# Altium footprint library 8-SOP.PcbLib: 1 footprints
Each footprint in its own frame and in the unit in brackets; x right, y up, seen from the top. Pads: shape width x height; smd on the part's side, far side on the other; paste and mask are expansions set on the pad; w line width, h text height; cw(c..) or ccw(c..) is an arc to the next point about the centre after c.
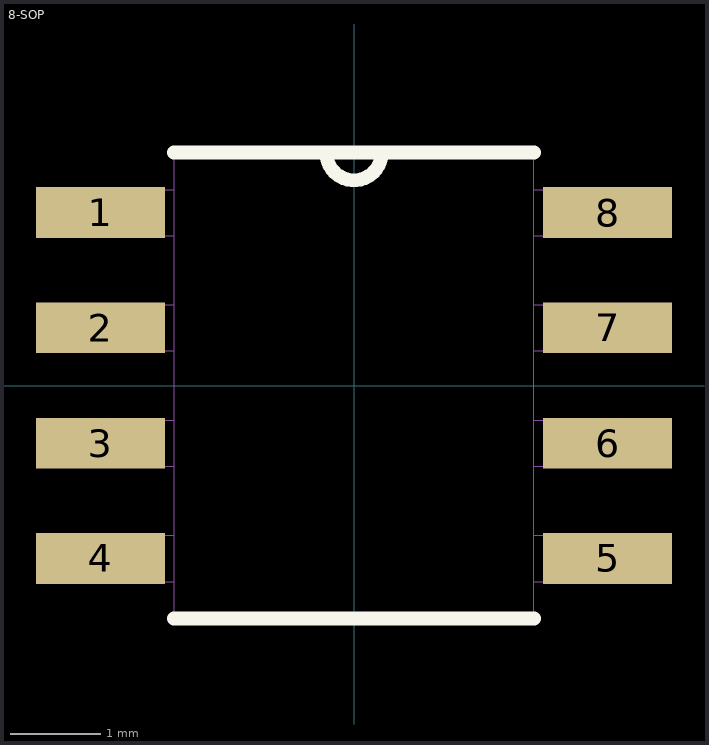
[diagram p0: the footprint, top view; thin cyan lines are the x and y axes]

## 8-SOP [mil]
pads (8):
  rect 56x22 smd: 1(-110,75) 2(-110,25) 3(-110,-25) 4(-110,-75) 5(110,-75) 6(110,-25) 7(110,25) 8(110,75)
Top Overlay:
  lines w6: -78,-101 78,-101 ; -78,101 -12,101 ; 78,101 12,101 ; -12,101 ccw(c0,101) 12,101 ; -12,101 12,101
Mechanical 4:
  lines w0: -124,-85 -124,-65 ; -124,-85 -78,-85 ; -124,-85 -124,-65 ; -124,-85 -78,-85 ; -124,-65 -78,-65 ; -124,-65 -78,-65 ; -124,-35 -124,-15 ; -124,-35 -78,-35 ; -124,-35 -124,-15 ; -124,-35 -78,-35 ; -124,-15 -78,-15 ; -124,-15 -78,-15 ; -124,15 -124,35 ; -124,15 -78,15 ; -124,15 -124,35 ; -124,15 -78,15 ; -124,35 -78,35 ; -124,35 -78,35 ; -124,65 -124,85 ; -124,65 -78,65 ; -124,65 -124,85 ; -124,65 -78,65 ; -124,85 -78,85 ; -124,85 -78,85 ; -78,-101 78,-101 ; -78,-101 -78,101 ; -78,-101 78,-101 ; -78,-101 -78,101 ; -78,-85 -78,-65 ; -78,-85 -78,-65 ; -78,-35 -78,-15 ; -78,-35 -78,-15 ; -78,15 -78,35 ; -78,15 -78,35 ; -78,65 -78,85 ; -78,65 -78,85 ; -78,101 -12,101 ; -78,101 -12,101 ; -12,101 ccw(c0,101) 12,101 ; -12,101 ccw(c0,101) 12,101 ; -12,101 12,101 ; -12,101 12,101 ; 12,101 78,101 ; 12,101 78,101 ; 78,-101 78,101 ; 78,-101 78,101 ; 78,-85 78,-65 ; 78,-85 124,-85 ; 78,-85 78,-65 ; 78,-85 124,-85 ; 78,-65 124,-65 ; 78,-65 124,-65 ; 78,-35 78,-15 ; 78,-35 124,-35 ; 78,-35 78,-15 ; 78,-35 124,-35 ; 78,-15 124,-15 ; 78,-15 124,-15 ; 78,15 78,35 ; 78,15 124,15 ; 78,15 78,35 ; 78,15 124,15 ; 78,35 124,35 ; 78,35 124,35 ; 78,65 78,85 ; 78,65 124,65 ; 78,65 78,85 ; 78,65 124,65 ; 78,85 124,85 ; 78,85 124,85 ; 124,-85 124,-65 ; 124,-85 124,-65 ; 124,-35 124,-15 ; 124,-35 124,-15 ; 124,15 124,35 ; 124,15 124,35 ; 124,65 124,85 ; 124,65 124,85